# Altium footprint library relay.PcbLib: 13 footprints
Each footprint in its own frame and in the unit in brackets; x right, y up, seen from the top. Pads: shape width x height; smd on the part's side, far side on the other; paste and mask are expansions set on the pad; w line width, h text height; cw(c..) or ccw(c..) is an arc to the next point about the centre after c.
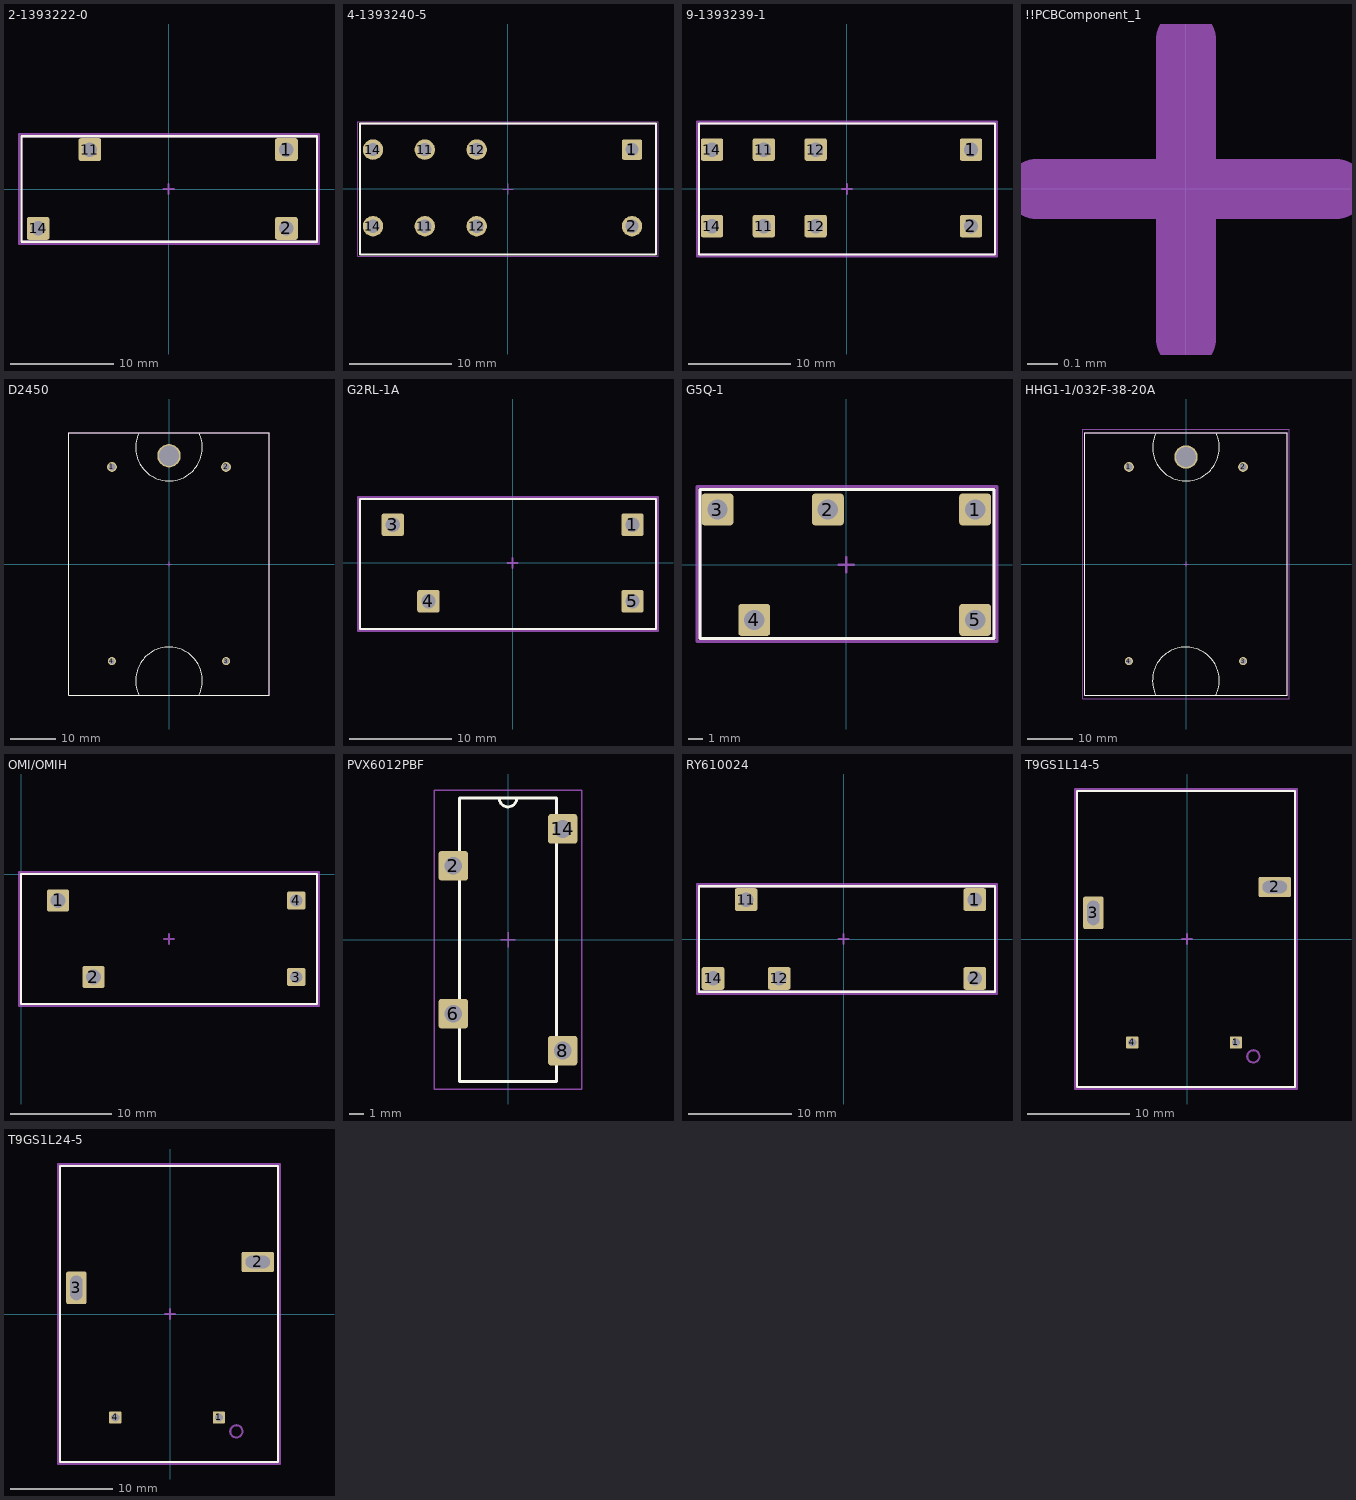
[diagram p0: the footprints below, top view; thin cyan lines are the x and y axes]

## 2-1393222-0 [mm] "V23061-A1005-A302"
pads (4):
  rrect20% 2.2x2.2 hole 1.4: 1(11.39,3.81) 2(11.39,-3.81) 11(-7.61,3.81) 14(-12.61,-3.81)
Top Overlay:
  lines w0.2: -14.21,-5.1 -14.21,5.1 14.34,5.1 14.34,-5.1 -14.21,-5.1
M3_comm_top:
  text ".comment" at -0.9,-0.3 h1
M5_asm_top:
  lines w0.2: -14.21,-5.1 14.34,-5.1 14.34,5.1 -14.21,5.1 -14.21,-5.1
  text "11" at -7.91,1.81 h1
  text "14" at -12.96,-2.5 h1
  text "2" at 11.3,-2.5 h1
  text "1" at 11.29,1.91 h1
  text ".Designator" at -1,1.3 h1
M7_courtyard_top:
  lines w0.2: -0.5,0 0.5,0 ; 0,-0.5 0,0.5 ; -14.46,-5.3 -14.46,5.3 14.54,5.3 14.54,-5.3 -14.46,-5.3
3D body "c-2-1393222-0-a-3d.stp": height 14.9, standoff -3.8, extent -14.21,-4.91 14.29,4.91

## 4-1393240-5 [mm] "4-1393240-5 (RT334012)"
pads (8):
  rrect20% 2x2 hole 1.3: 1(12.15,3.86)
  round 2 hole 1.3: 2(12.15,-3.64) 11(-8.15,-3.64) 11(-8.15,3.86) 12(-3.07,-3.64) 12(-3.07,3.86) 14(-13.23,-3.64) 14(-13.23,3.86)
Top Overlay:
  lines w0.2: -14.5,-6.4 14.5,-6.4 14.5,6.4 -14.5,6.4 -14.5,-6.4
M3_comm_top:
  text ".comment" at -0.9,-0.3 h1
M5_asm_top:
  lines w0.1: -14.5,-6.4 -14.5,6.4 14.5,6.4 14.5,-6.4 -14.5,-6.4
  text ".Designator" at -1.6,6.9 h1
  text "1" at 12.09,1.91 h1
  text "2" at 11.95,-2.34 h1
  text "14" at -13.45,-0.14 h1
  text "11" at -8.45,-0.14 h1
  text "12" at -3.35,-0.14 h1
M7_courtyard_top:
  lines w0.1: -0.5,0 0.5,0 ; 0,-0.5 0,0.5 ; -14.7,-6.6 14.7,-6.6 14.7,6.6 -14.7,6.6 -14.7,-6.6
3D body "c-9-1393239-1-c-3d.stp": height 15.75, standoff -3.55, extent -14.5,-6.35 14.5,6.35

## 9-1393239-1 [mm] "9-1393239-1, RT314005"
pads (8):
  rrect20% 2.2x2.2 hole 1.4: 1(12.15,3.86) 2(12.15,-3.64) 11(-8.15,-3.64) 11(-8.15,3.86) 12(-3.07,-3.64) 12(-3.07,3.86) 14(-13.23,-3.64) 14(-13.23,3.86)
Top Overlay:
  lines w0.2: -14.5,-6.4 -14.5,6.4 14.5,6.4 14.5,-6.4 -14.5,-6.4
M3_comm_top:
  text ".comment" at -0.9,-0.3 h1
M5_asm_top:
  lines w0.2: -14.5,-6.4 14.5,-6.4 14.5,6.4 -14.5,6.4 -14.5,-6.4
  text "12" at -3.35,-0.14 h1
  text "11" at -8.45,-0.14 h1
  text "14" at -13.45,-0.14 h1
  text "2" at 11.95,-2.34 h1
  text "1" at 12.09,1.91 h1
  text ".Designator" at -1,1.3 h1
M7_courtyard_top:
  lines w0.2: -0.5,0 0.5,0 ; 0,-0.5 0,0.5 ; -14.7,-6.6 -14.7,6.6 14.7,6.6 14.7,-6.6 -14.7,-6.6
3D body "c-9-1393239-1-c-3d.stp": height 15.75, standoff -3.55, extent -14.5,-6.35 14.5,6.35

## !!PCBComponent_1 [mm]
M3_comm_top:
  text ".comment" at -0.9,-0.3 h1
M5_asm_top:
  text ".Designator" at -1,1.3 h1
M7_courtyard_top:
  lines w0.2: -0.5,0 0.5,0 ; 0,-0.5 0,0.5

## D2450 [mm] "D2450"
pads (5):
  round 2.2 hole 1.5: 1(-12.7,21.6) 2(12.7,21.6)
  round 1.8 hole 1.2: 3(12.7,-21.6) 4(-12.7,-21.6)
  round 5.2 hole 4.5: ""(0,24.1)
Top Overlay:
  lines w0.2: -6.726,29.101 ccw(c0,25.934) 6.679,29.2 ; -6.679,-29.2 cw(c0,-25.934) 6.726,-29.101 ; -22.3,-29.2 22.3,-29.2 22.3,29.2 -22.3,29.2 -22.3,-29.2
M3_comm_top:
  text ".comment" at 0,0 h1
M5_asm_top:
  lines w0.1: -22.3,-29.2 22.3,-29.2 22.3,29.2 -22.3,29.2 -22.3,-29.2
  text ".Designator" at -2.2,29.5 h1
  text "1" at -12.9,19.3 h1
  text "2" at 12.5,19.3 h1
  text "4" at -13,-20.2 h1
  text "3" at 12.5,-20.2 h1
M7_courtyard_top:
  lines w0.1: -0.5,0 0.5,0 ; 0,-0.5 0,0.5
3D body "cwa2450.stp": height 33.39, standoff 1, extent -22.327,-29.21 22.326,29.21

## G2RL-1A [mm] "G2RL-1A RELAY GEN PURPOSE SPST 16A 5V"
pads (4):
  rrect20% 2.2x2.2 hole 1.4: 1(11.75,3.75) 3(-11.75,3.75) 4(-8.25,-3.75) 5(11.75,-3.75)
Top Overlay:
  lines w0.2: -14.95,-6.45 -14.95,6.25 14.05,6.25 14.05,-6.45 -14.95,-6.45
M3_comm_top:
  text ".comment" at -0.9,-0.3 h1
M5_asm_top:
  lines w0.2: -14.95,-6.45 14.05,-6.45 14.05,6.25 -14.95,6.25 -14.95,-6.45
  text "3" at -12.05,1.75 h1
  text "4" at -8.65,-2.25 h1
  text "5" at 11.65,-2.45 h1
  text "1" at 11.65,1.75 h1
  text ".Designator" at -1,1.3 h1
M7_courtyard_top:
  lines w0.2: -0.5,0 0.5,0 ; 0,-0.5 0,0.5 ; -15.15,-6.65 -15.15,6.45 14.25,6.45 14.25,-6.65 -15.15,-6.65
3D body "G2RL_1A.step": height 15.75, standoff -3.45, extent -14.95,-6.45 14.05,6.25

## G5Q-1 [mm] "Miniature Power Relay with  1-pole 10A Switching Capacity"
pads (5):
  rrect20% 2.2x2.2 hole 1.4: 1(8.89,3.81) 2(-1.27,3.81) 3(-8.89,3.81) 4(-6.35,-3.81) 5(8.89,-3.81)
Top Overlay:
  lines w0.2: -10.1,-5.1 10.2,-5.1 10.2,5.2 -10.1,5.2 -10.1,-5.1
M3_comm_top:
  text ".comment" at -0.9,-0.3 h1
M5_asm_top:
  lines w0.2: -10.1,-5.1 -10.1,5.2 10.2,5.2 10.2,-5.1 -10.1,-5.1
  text ".Designator" at -1,1.3 h1
  text "1" at 8.4,1.8 h1
  text "5" at 8.6,-2.5 h1
  text "2" at -1.4,1.9 h1
  text "3" at -9.1,1.9 h1
  text "4" at -6.5,-2.5 h1
M7_courtyard_top:
  lines w0.2: -0.5,0 0.5,0 ; 0,-0.5 0,0.5 ; -10.3,-5.3 10.4,-5.3 10.4,5.4 -10.3,5.4 -10.3,-5.3
3D body "G5Q_1.step": height 16.21, standoff -3.38, extent -10.09,-5.14 10.21,5.16

## HHG1-1/032F-38-20A [mm] "HHG1-1/032F-38-20A"
pads (5):
  round 2.2 hole 1.5: 1(-12.7,21.6) 2(12.7,21.6)
  round 1.8 hole 1.2: 3(12.7,-21.6) 4(-12.7,-21.6)
  round 5.2 hole 4.5: ""(0,23.8)
Top Overlay:
  lines w0.2: -6.726,29.101 ccw(c0,25.934) 6.679,29.2 ; -6.704,-29.2 cw(c-0.025,-25.934) 6.702,-29.101 ; -22.5,-29.2 22.5,-29.2 22.5,29.2 -22.5,29.2 -22.5,-29.2
M3_comm_top:
  text ".comment" at 0,0 h1
M5_asm_top:
  lines w0.1: -22.5,-29.2 -22.5,29.2 22.5,29.2 22.5,-29.2 -22.5,-29.2
  text ".Designator" at -0.6,29.7 h1
  text "1" at -12.9,19.3 h1
  text "2" at 12.5,19.3 h1
  text "4" at -13,-20.2 h1
  text "3" at 12.5,-20.2 h1
M7_courtyard_top:
  lines w0.1: -0.5,0 0.5,0 ; 0,-0.5 0,0.5 ; -23,-30 -23,30 23,30 23,-30 -23,-30
3D body "cwa2450.stp": height 33.39, standoff 1, extent -22.327,-29.21 22.326,29.21

## OMI/OMIH [mm] "OMIH-SH-105LM,394 (6-1440000-7)"
pads (4):
  rrect20% 2.2x2.2 hole 1.5: 1(3.65,-2.6) 2(7.15,-10.15)
  rrect20% 1.8x1.8 hole 1.2: 3(27.15,-10.15) 4(27.15,-2.6)
Top Overlay:
  lines w0.2: 0,-12.8 29.2,-12.8 29.2,0 0,0 0,-12.8
M3_comm_top:
  text ".comment" at 13.7,-6.7 h1
M5_asm_top:
  lines w0.2: 0,-12.8 0,0 29.2,0 29.2,-12.8 0,-12.8
  text ".Designator" at 13.6,-5.1 h1
  text "1" at 3.5,-4.6 h1
  text "2" at 7.1,-8.8 h1
  text "4" at 27,-4.6 h1
  text "3" at 27,-8.8 h1
M7_courtyard_top:
  lines w0.2: 14.1,-6.4 15.1,-6.4 ; 14.6,-6.9 14.6,-5.9 ; -0.2,-13 29.4,-13 29.4,0.2 -0.2,0.2 -0.2,-13
3D body "c-6-1440000-7-d4-3d.stp": height 20.4, standoff -4.3, extent 0,-12.8 29.2,0

## PVX6012PBF [mm] "PVX6012PBF"
height 3.43
pads (4):
  rrect20% 2x2 hole 1.2: 2(-3.7,5) 6(-3.7,-5) 8(3.7,-7.5) 14(3.7,7.5)
Top Overlay:
  lines w0.2: -0.593,9.595 ccw(c0,9.585) 0.593,9.585 ; -3.27,-9.6 3.27,-9.6 3.27,9.6 -3.27,9.6 -3.27,-9.6
M3_comm_top:
  text ".comment" at -0.9,-0.3 h1
M5_asm_top:
  lines w0.1: -0.6,9.585 ccw(c0,9.6) 0.6,9.6 ; -3.27,-9.6 3.27,-9.6 3.27,9.6 -3.27,9.6 -3.27,-9.6
  text ".Designator" at -1,10.3 h1
M7_courtyard_top:
  lines w0.1: -0.5,0 0.5,0 ; 0,-0.5 0,0.5 ; -5,-10.1 5,-10.1 5,10.1 -5,10.1 -5,-10.1
3D body "Standex-Meder Electronics-DIP-1A75-13L_WEB.STEP": height 3.77, standoff -3.77, extent -3.935,-9.65 3.935,9.65

## RY610024 [mm] "1-1393225-4 (RY610024)"
pads (5):
  rrect20% 2.2x2.2 hole 1.4: 1(12.65,3.81) 2(12.65,-3.81) 11(-9.45,3.81) 12(-6.25,-3.81) 14(-12.65,-3.81)
Top Overlay:
  lines w0.2: -14,-5.1 14.6,-5.1 14.6,5.1 -14,5.1 -14,-5.1
M3_comm_top:
  text ".comment" at -0.94,-0.3 h1
M5_asm_top:
  lines w0.2: -14,-5.1 -14,5.1 14.6,5.1 14.6,-5.1 -14,-5.1
  text ".Designator" at -1.04,1.3 h1
  text "1" at 12.16,1.8 h1
  text "2" at 12.36,-2.5 h1
  text "14" at -13,-2.5 h1
  text "11" at -9.8,1.8 h1
  text "12" at -6.6,-2.5 h1
M7_courtyard_top:
  lines w0.2: -0.54,0 0.46,0 ; -0.04,-0.5 -0.04,0.5 ; -14.2,-5.3 14.8,-5.3 14.8,5.3 -14.2,5.3 -14.2,-5.3
3D body "RY610024.STEP": height 12.35, standoff -3.15, extent -13.944,-5.05 14.556,5.05

## T9GS1L14-5 [mm] "1558666-1, T9G relay series is a 30A Power PCB relay for HVAC"
pads (4):
  rrect20% 1.2x1.2 hole 0.8: 1(4.79,-10.14) 4(-5.37,-10.14)
  rrect20% 3.2x2 hole 1.2 slot 2.4 at 0 deg: 2(8.6,5.1)
  rrect20% 2x3.2 hole 1.2 slot 2.4 at 90 deg: 3(-9.18,2.56)
Top Overlay:
  lines w0.2: -10.8,-14.5 10.6,-14.5 10.6,14.5 -10.8,14.5 -10.8,-14.5
M3_comm_top:
  text ".comment" at 0.3,-0.9 h1
M5_asm_top:
  circle w0.2: c6.5,-11.5 r0.6
  lines w0.2: -10.8,-14.5 -10.8,14.5 10.6,14.5 10.6,-14.5 -10.8,-14.5
  text "4" at -3.9,-10.3 h1
  text "3" at -7.2,2.4 h1
  text "2" at 6.6,4.9 h1
  text "1" at 3.7,-10.2 h1
  text ".Designator" at -1.3,-1 h1
M7_courtyard_top:
  lines w0.2: -0.5,0 0.5,0 ; 0,-0.5 0,0.5 ; -11,-14.7 10.8,-14.7 10.8,14.7 -11,14.7 -11,-14.7
3D body "c-1558666-1-b-3d.stp": height 15.8, standoff -3.15, extent -10.8,-14.45 10.6,14.45

## T9GS1L24-5 [mm] "1558676-1, T9G relay series is a 30A Power PCB relay for HVAC"
pads (4):
  rrect20% 1.2x1.2 hole 0.8: 1(4.79,-10.14) 4(-5.37,-10.14)
  rrect20% 3.2x2 hole 1.2 slot 2.4 at 0 deg: 2(8.6,5.1)
  rrect20% 2x3.2 hole 1.2 slot 2.4 at 90 deg: 3(-9.18,2.56)
Top Overlay:
  lines w0.2: -10.8,-14.5 -10.8,14.5 10.6,14.5 10.6,-14.5 -10.8,-14.5
M3_comm_top:
  text ".comment" at 0.3,-0.9 h1
M5_asm_top:
  circle w0.2: c6.5,-11.5 r0.6
  lines w0.2: -10.8,-14.5 10.6,-14.5 10.6,14.5 -10.8,14.5 -10.8,-14.5
  text ".Designator" at -1.3,-1 h1
  text "1" at 3.7,-10.2 h1
  text "2" at 6.6,4.9 h1
  text "3" at -7.2,2.4 h1
  text "4" at -3.9,-10.3 h1
M7_courtyard_top:
  lines w0.2: -0.5,0 0.5,0 ; 0,-0.5 0,0.5 ; -11,-14.7 -11,14.7 10.8,14.7 10.8,-14.7 -11,-14.7
3D body "c-1558676-1-a-3d.stp": height 26.8, standoff -3.15, extent -12.353,-14.693 12.077,16.436